# Altium schematic symbol library Interface.SchLib: 6 symbols
Pins are listed as number, name and electrical type; pins without a type are passive.

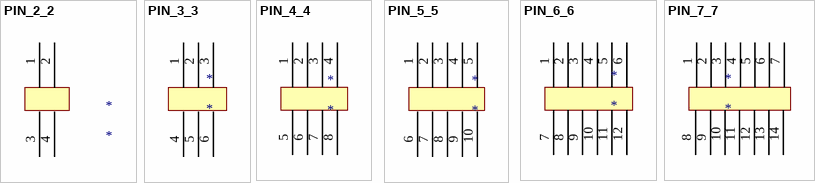
[diagram p0: symbols PIN_2_2 to PIN_7_7]

## PIN_2_2
designator *
pins: 1, 2, 3 4, 4

## PIN_3_3
designator *
pins: 1, 2, 3, 4, 5, 6

## PIN_4_4
designator *
pins: 1, 2, 3, 4, 5, 6, 7, 8

## PIN_5_5
designator *
pins: 1, 2, 3, 4, 5, 6, 7, 8, 9, 10

## PIN_6_6
designator *
pins: 1, 2, 3, 4, 5, 6, 7, 8, 9, 10, 11, 12

## PIN_7_7
designator *
pins: 1, 2, 3, 4, 5, 6, 7, 8, 9, 10, 11, 12, 13, 14